# Altium schematic symbol library connectors_schematic.SchLib: 76 symbols (part 2 of 2)
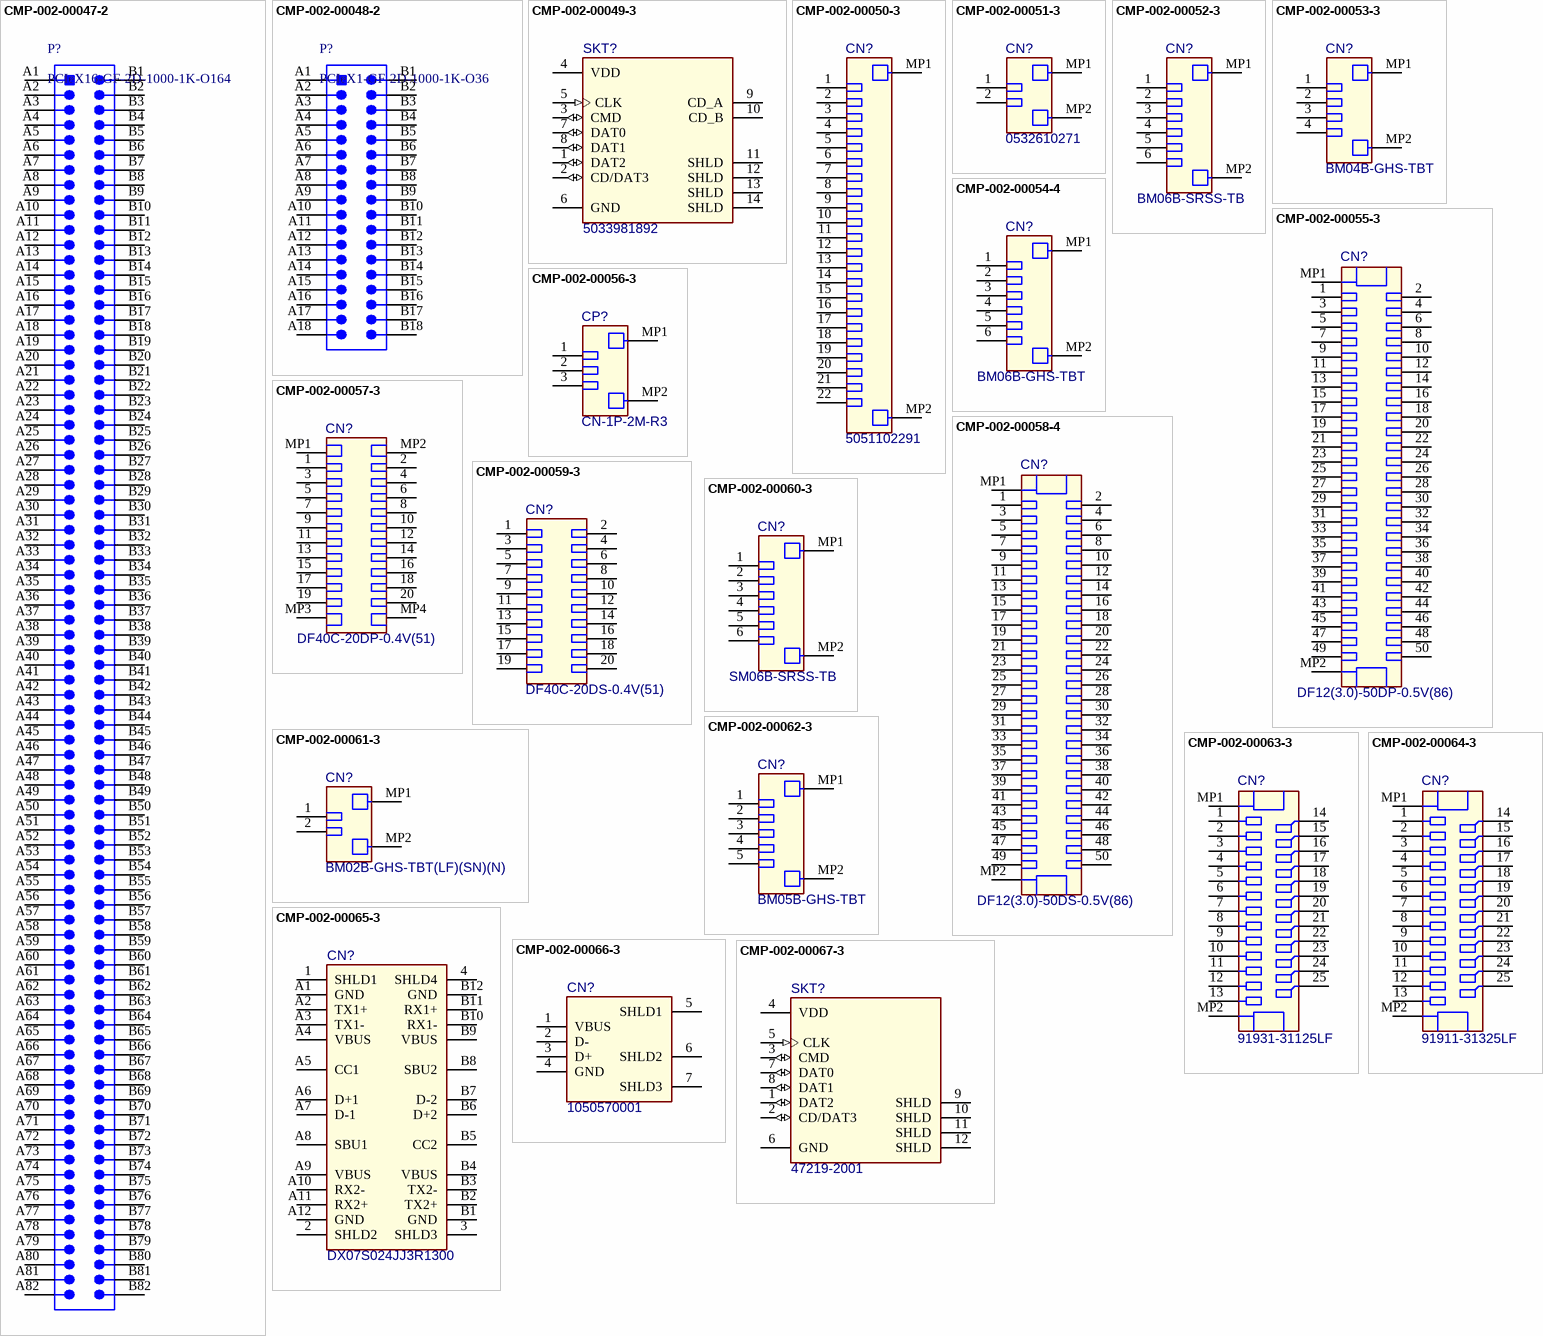
[diagram p5: symbols CMP-002-00047-2 to CMP-002-00067-3]

## CMP-002-00062-3
designator CN?, comment BM05B-GHS-TBT
GH Disconnectable Crimp Style Connector, Pitch 1.25 mm, 1 x 5 Position, Height 4.05 mm, -25 to 85 degC, RoHS, Tape and Reel; Mounting Technology: SurfaceMount; Pins: 7; Case/Package: GH Disconnectable Crimp Style Connector, Pitch 1.25 mm, 1 x 5 Position, Height 4.05 mm
footprint JST-BM05B-GHS-TBT_V (Connector, 5-Leads, Body 9.5x4.25mm, Pitch 1.25mm)
footprint JST-BM05B-GHS-TBT_V (Connector, 5-Leads, Body 9.5x4.25mm, Pitch 1.25mm)
pins: 1, 2, 3, 4, 5, MP1, MP2

## CMP-002-00063-3
designator CN?, comment 91931-31125LF
Receptacle, Pitch 1 mm, 25 Position, Height 4.15 mm, -55 to 130 degC; Pins: 27
footprint AMPH-91911-31325_V (SMD, 25-Leads, Body 5.59x17.3mm, Pitch 1mm)
footprint AMPH-91931-31125_V (SMD, 25-Leads, Body 5.59x17.3mm, Pitch 1mm)
pins: 1, 2, 3, 4, 5, 6, 7, 8, 9, 10, 11, 12, 13, 14, 15, 16, 17, 18, 19, 20, 21, 22, 23, 24, 25, MP1, MP2

## CMP-002-00064-3
designator CN?, comment 91911-31325LF
Header, Pitch 1 mm, 25 Position, Height 5 mm, -55 to 130 degC; Pins: 27
footprint AMPH-91911-31325_V (SMD, 25-Leads, Body 5.59x17.3mm, Pitch 1mm)
footprint AMPH-91911-31325_V (SMD, 25-Leads, Body 5.59x17.3mm, Pitch 1mm)
pins: 1, 2, 3, 4, 5, 6, 7, 8, 9, 10, 11, 12, 13, 14, 15, 16, 17, 18, 19, 20, 21, 22, 23, 24, 25, MP1, MP2

## CMP-002-00065-3
designator CN?, comment DX07S024JJ3R1300
USB-C Connector, 20 V, 1.25 A, -30 to 80 degC, RoHS, Tape and Reel; Gender: Receptacle; Pins: 28; Connector Type: USB-C
footprint JAE-DX07S024JJ3_V (THD, 24-Leads, Body 8.17x8.94mm, Pitch 0.5mm)
footprint JAE-DX07S024JJ3_V (THD, 24-Leads, Body 8.17x8.94mm, Pitch 0.5mm)
pins: 1 SHLD1, 2 SHLD2, 3 SHLD3, 4 SHLD4, A1 GND, A2 TX1+, A3 TX1-, A4 VBUS, A5 CC1, A6 D+1, A7 D-1, A8 SBU1, A9 VBUS, A10 RX2-, A11 RX2+, A12 GND, B1 GND, B2 TX2+, B3 TX2-, B4 VBUS, B5 CC2, B6 D+2, B7 D-2, B8 SBU2, B9 VBUS, B10 RX1-, B11 RX1+, B12 GND

## CMP-002-00066-3
designator CN?, comment 1050570001
USB-A Connector, 30 V, 1.5 A, -40 to 85 degC, RoHS, Tape and Reel; Gender: RCP; Pins: 7; RoHS Compliant: Yes
footprint MOLX-1050570001_V (THD, 4-Leads, Body 14.63x7.25mm)
footprint MOLX-1050570001_V (THD, 4-Leads, Body 14.63x7.25mm)
pins: 1 VBUS, 2 D-, 3 D+, 4 GND, 5 SHLD1, 6 SHLD2, 7 SHLD3

## CMP-002-00067-3
designator SKT?, comment 47219-2001
MicroSD Card Connector, Hinge Type, -40 to 85 degC, 8-Pin SMD, RoHS, Tape and Reel; RoHS Compliant: Details; Pins: 12
footprint MOLX-47219-2001-8_V (CONN, 8-Leads, Body 14.5x13.6mm, Pitch 1.1mm)
footprint MOLX-47219-2001-8_V (CONN, 8-Leads, Body 14.5x13.6mm, Pitch 1.1mm)
pins: 1 DAT2 (io), 2 CD/DAT3 (io), 3 CMD (io), 4 VDD (power), 5 CLK (in), 6 GND, 7 DAT0 (io), 8 DAT1 (io), 9 SHLD, 10 SHLD, 11 SHLD, 12 SHLD

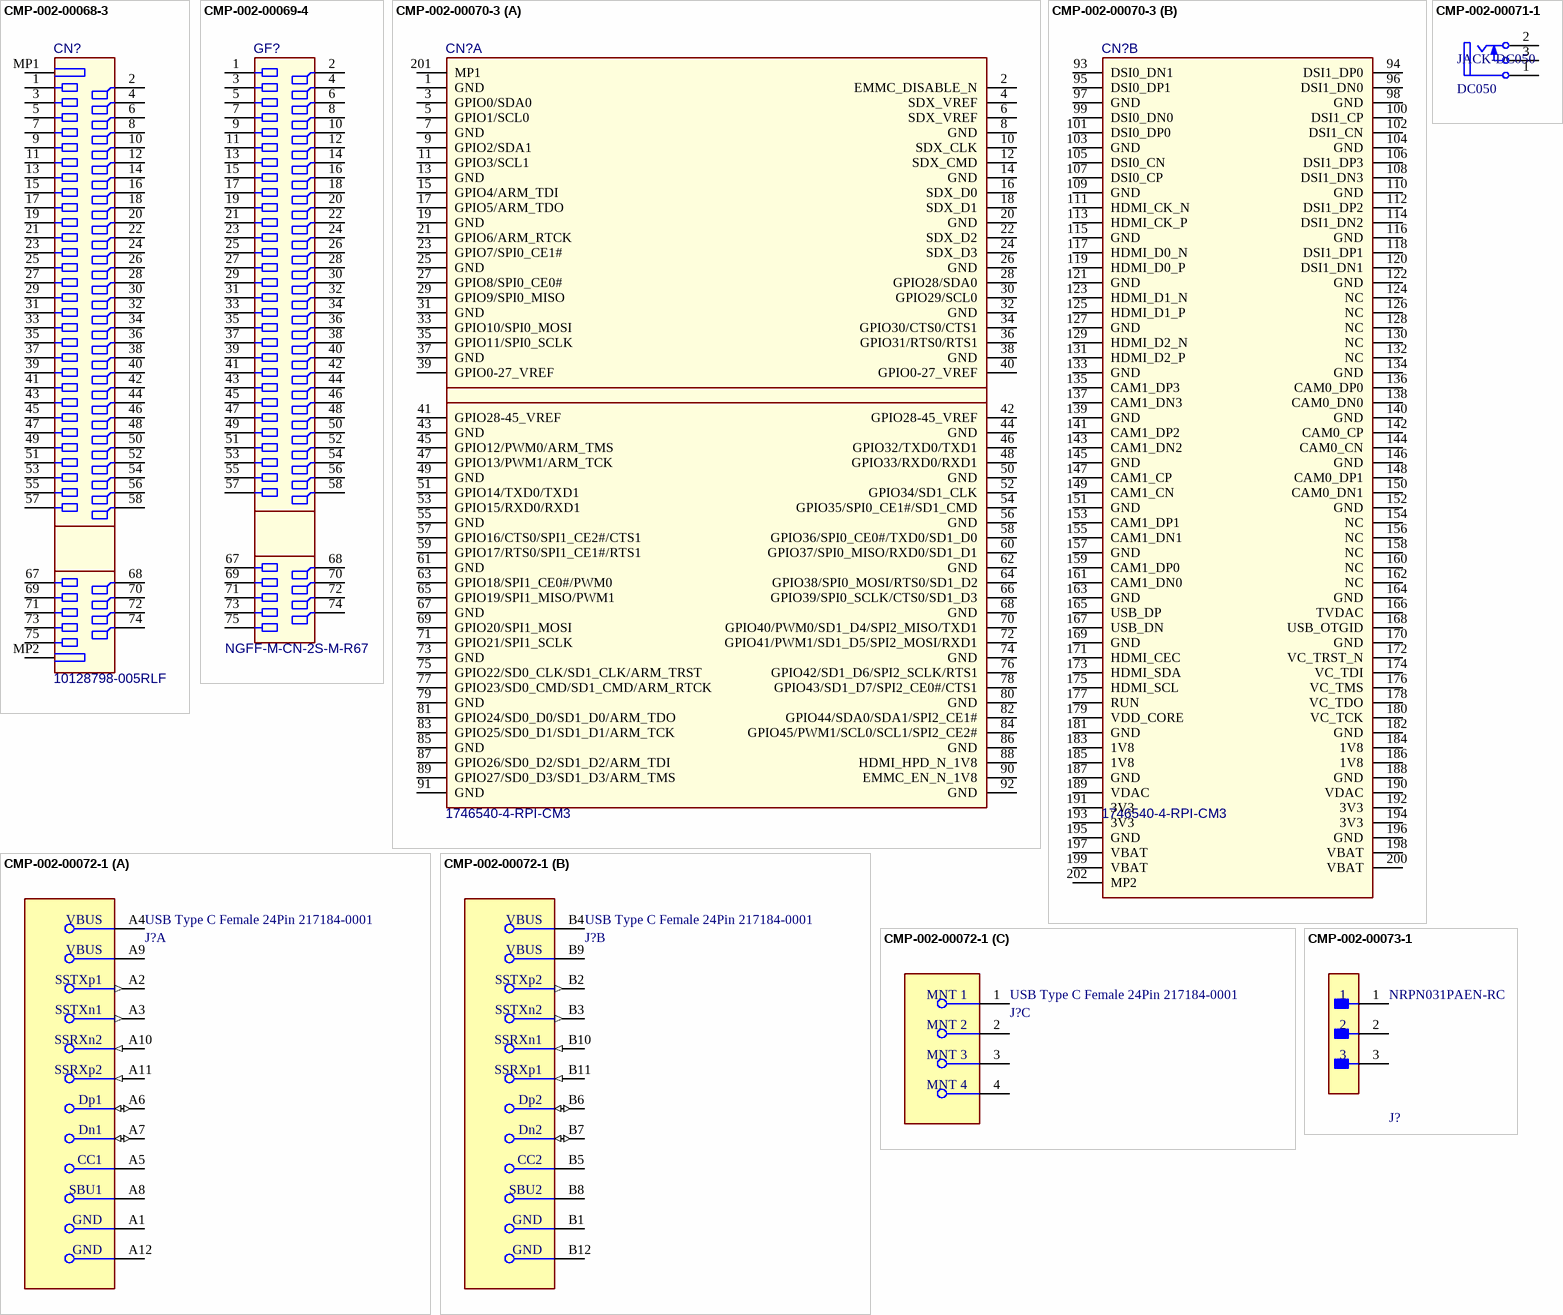
[diagram p3: symbols CMP-002-00068-3 to CMP-002-00073-1]

## CMP-002-00068-3
designator CN?, comment 10128798-005RLF
Card Edge Connector, Pitch 0.5 mm, 67 Position, Height 5.8 mm; Pins: 69
footprint AMPH-10128798-005RLF_V (SMD, 67-Leads, Body 21.9x7.2mm, Pitch 0.5mm)
footprint AMPH-10128798-005RLF_V (SMD, 67-Leads, Body 21.9x7.2mm, Pitch 0.5mm)
pins: 1, 2, 3, 4, 5, 6, 7, 8, 9, 10, 11, 12, 13, 14, 15, 16, 17, 18, 19, 20, 21, 22, 23, 24, 25, 26, 27, 28, 29, 30, 31, 32, 33, 34, 35, 36, 37, 38, 39, 40, 41, 42, 43, 44, 45, 46, 47, 48, 49, 50, 51, 52, 53, 54, 55, 56, 57, 58, 67, 68, 69, 70, 71, 72, 73, 74, 75, MP1, MP2

## CMP-002-00069-4
designator GF?, comment NGFF-M-CN-2S-M-R67  (no BOM)
Golden finger, NGFF key M, Dual, Staggered, Pitch 0.5mm, 67-Position; Pins: 67
footprint NGFF-M-GF-2D-500-1K-S67 (Golden finger, NGFF key M, Dual, Staggered, Pitch 0.5mm, 47-Position)
footprint NGFF-M-GF-2D-500-1K-S67 (Golden finger, NGFF key M, Dual, Staggered, Pitch 0.5mm, 47-Position)
pins: 1, 2, 3, 4, 5, 6, 7, 8, 9, 10, 11, 12, 13, 14, 15, 16, 17, 18, 19, 20, 21, 22, 23, 24, 25, 26, 27, 28, 29, 30, 31, 32, 33, 34, 35, 36, 37, 38, 39, 40, 41, 42, 43, 44, 45, 46, 47, 48, 49, 50, 51, 52, 53, 54, 55, 56, 57, 58, 67, 68, 69, 70, 71, 72, 73, 74, 75

## CMP-002-00070-3
designator CN?, comment 1746540-4-RPI-CM3
Raspberry Pi Compute Module 3 socket; Pins: 202
footprint TECO-1746540-4_V (SMD, 200-Leads, Body 71.5x26.55mm, Pitch 0.6mm)
footprint TECO-1746540-4_V (SMD, 200-Leads, Body 71.5x26.55mm, Pitch 0.6mm)
part A pins: 1 GND, 2 EMMC_DISABLE_N, 3 GPIO0/SDA0, 4 SDX_VREF, 5 GPIO1/SCL0, 6 SDX_VREF, 7 GND, 8 GND, 9 GPIO2/SDA1, 10 SDX_CLK, 11 GPIO3/SCL1, 12 SDX_CMD, 13 GND, 14 GND, 15 GPIO4/ARM_TDI, 16 SDX_D0, 17 GPIO5/ARM_TDO, 18 SDX_D1, 19 GND, 20 GND, 21 GPIO6/ARM_RTCK, 22 SDX_D2, 23 GPIO7/SPI0_CE1#, 24 SDX_D3, 25 GND, 26 GND, 27 GPIO8/SPI0_CE0#, 28 GPIO28/SDA0, 29 GPIO9/SPI0_MISO, 30 GPIO29/SCL0, 31 GND, 32 GND, 33 GPIO10/SPI0_MOSI, 34 GPIO30/CTS0/CTS1, 35 GPIO11/SPI0_SCLK, 36 GPIO31/RTS0/RTS1, 37 GND, 38 GND, 39 GPIO0-27_VREF, 40 GPIO0-27_VREF, 41 GPIO28-45_VREF, 42 GPIO28-45_VREF, 43 GND, 44 GND, 45 GPIO12/PWM0/ARM_TMS, 46 GPIO32/TXD0/TXD1, 47 GPIO13/PWM1/ARM_TCK, 48 GPIO33/RXD0/RXD1, 49 GND, 50 GND, 51 GPIO14/TXD0/TXD1, 52 GPIO34/SD1_CLK, 53 GPIO15/RXD0/RXD1, 54 GPIO35/SPI0_CE1#/SD1_CMD, 55 GND, 56 GND, 57 GPIO16/CTS0/SPI1_CE2#/CTS1, 58 GPIO36/SPI0_CE0#/TXD0/SD1_D0, 59 GPIO17/RTS0/SPI1_CE1#/RTS1, 60 GPIO37/SPI0_MISO/RXD0/SD1_D1, 61 GND, 62 GND, 63 GPIO18/SPI1_CE0#/PWM0, 64 GPIO38/SPI0_MOSI/RTS0/SD1_D2, 65 GPIO19/SPI1_MISO/PWM1, 66 GPIO39/SPI0_SCLK/CTS0/SD1_D3, 67 GND, 68 GND, 69 GPIO20/SPI1_MOSI, 70 GPIO40/PWM0/SD1_D4/SPI2_MISO/TXD1, 71 GPIO21/SPI1_SCLK, 72 GPIO41/PWM1/SD1_D5/SPI2_MOSI/RXD1, 73 GND, 74 GND, 75 GPIO22/SD0_CLK/SD1_CLK/ARM_TRST, 76 GPIO42/SD1_D6/SPI2_SCLK/RTS1, 77 GPIO23/SD0_CMD/SD1_CMD/ARM_RTCK, 78 GPIO43/SD1_D7/SPI2_CE0#/CTS1, 79 GND, 80 GND, 81 GPIO24/SD0_D0/SD1_D0/ARM_TDO, 82 GPIO44/SDA0/SDA1/SPI2_CE1#, 83 GPIO25/SD0_D1/SD1_D1/ARM_TCK, 84 GPIO45/PWM1/SCL0/SCL1/SPI2_CE2#, 85 GND, 86 GND, 87 GPIO26/SD0_D2/SD1_D2/ARM_TDI, 88 HDMI_HPD_N_1V8, 89 GPIO27/SD0_D3/SD1_D3/ARM_TMS, 90 EMMC_EN_N_1V8, 91 GND, 92 GND, 201 MP1
part B pins: 93 DSI0_DN1, 94 DSI1_DP0, 95 DSI0_DP1, 96 DSI1_DN0, 97 GND, 98 GND, 99 DSI0_DN0, 100 DSI1_CP, 101 DSI0_DP0, 102 DSI1_CN, 103 GND, 104 GND, 105 DSI0_CN, 106 DSI1_DP3, 107 DSI0_CP, 108 DSI1_DN3, 109 GND, 110 GND, 111 HDMI_CK_N, 112 DSI1_DP2, 113 HDMI_CK_P, 114 DSI1_DN2, 115 GND, 116 GND, 117 HDMI_D0_N, 118 DSI1_DP1, 119 HDMI_D0_P, 120 DSI1_DN1, 121 GND, 122 GND, 123 HDMI_D1_N, 124 NC, 125 HDMI_D1_P, 126 NC, 127 GND, 128 NC, 129 HDMI_D2_N, 130 NC, 131 HDMI_D2_P, 132 NC, 133 GND, 134 GND, 135 CAM1_DP3, 136 CAM0_DP0, 137 CAM1_DN3, 138 CAM0_DN0, 139 GND, 140 GND, 141 CAM1_DP2, 142 CAM0_CP, 143 CAM1_DN2, 144 CAM0_CN, 145 GND, 146 GND, 147 CAM1_CP, 148 CAM0_DP1, 149 CAM1_CN, 150 CAM0_DN1, 151 GND, 152 GND, 153 CAM1_DP1, 154 NC, 155 CAM1_DN1, 156 NC, 157 GND, 158 NC, 159 CAM1_DP0, 160 NC, 161 CAM1_DN0, 162 NC, 163 GND, 164 GND, 165 USB_DP, 166 TVDAC, 167 USB_DN, 168 USB_OTGID, 169 GND, 170 GND, 171 HDMI_CEC, 172 VC_TRST_N, 173 HDMI_SDA, 174 VC_TDI, 175 HDMI_SCL, 176 VC_TMS, 177 RUN, 178 VC_TDO, 179 VDD_CORE, 180 VC_TCK, 181 GND, 182 GND, 183 1V8 (power), 184 1V8, 185 1V8, 186 1V8, 187 GND, 188 GND, 189 VDAC, 190 VDAC, 191 3V3, 192 3V3, 193 3V3, 194 3V3, 195 GND, 196 GND, 197 VBAT, 198 VBAT, 199 VBAT, 200 VBAT, 202 MP2

## CMP-002-00071-1
designator JACK-DC050, comment DC050
DinxDout 2.1mm-55mm Jack Power DC Receptacle; Gender: Female; Voltage Rating: 16V; Max Current Rating: 2.5A; Connector Type: DCJack; Mounting Technology: SMT; Case/Package: DC050; RoHS Compliant: Yes; Pins: 3
footprint DC050-Footprint-1
pins: 1 SLEEVE, 2 TIP, 3 SHUNT

## CMP-002-00072-1
designator J?, comment USB Type C Female 24Pin 217184-0001
Connector USB Type C Female 24Positions 0.5mm Right Angle SMT Embossed T/R; Voltage Rating: 30V; Gender: Receptacle (Female); Max Current Rating: 5A; Connector Type: Type C Connectors; Pins: 24 Contact; Supplier Locally Name: Thegioiic; Supplier Locally URL: https://www.thegioiic.com/cong-usb-cai-3-1-type-c-24-chan-thang-dan-smd; Mounting Technology: SMD/SMT; Min Operating Temperature: -40°C; Case/Package: MouseReel; Standard: USB 3.2; Max Operating Temperature: 85°C
footprint FP-217184-0001-MFG
part A pins: A1 GND (power), A2 SSTXp1 (out), A3 SSTXn1 (out), A4 VBUS (power), A5 CC1, A6 Dp1 (io), A7 Dn1 (io), A8 SBU1, A9 VBUS (power), A10 SSRXn2 (in), A11 SSRXp2 (in), A12 GND (power)
part B pins: B1 GND (power), B2 SSTXp2 (out), B3 SSTXn2 (out), B4 VBUS (power), B5 CC2, B6 Dp2 (io), B7 Dn2 (io), B8 SBU2, B9 VBUS (power), B10 SSRXn1 (in), B11 SSRXp1 (in), B12 GND (power)
part C pins: 1 MNT 1, 2 MNT 2, 3 MNT 3, 4 MNT 4

## CMP-002-00073-1
designator J?, comment NRPN031PAEN-RC
Male, 3 C, Straight, .079"CC; 3.60mm Head/2.80mm Tail, No Mt; Nylon 6-T, Brass, 105 C; Connector Type: Header; Voltage Rating: 150V; Max Operating Temperature: 105°C; Min Operating Temperature: -40°C; RoHS Compliant: Yes; Mounting Technology: Through Hole
footprint FP-NRPN031PAEN-RC-MFG
pins: 1, 2, 3

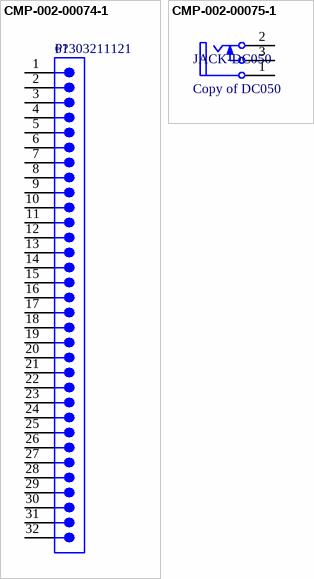
[diagram p4: symbols CMP-002-00074-1 to CMP-002-00075-1]

## CMP-002-00074-1
designator P?, comment 61303211121
THT Vertical Pin Header WR-PHD, Pitch 2.54 mm, Single Row, 32 pins; Gender: Male; Voltage Rating: 250V; Min Operating Temperature: -40°C; Mounting Technology: Through Hole; Max Operating Temperature: 105°C; Connector Type: Header; RoHS Compliant: Yes
footprint 61303211121 (Pin Header, pitch 2.54 mm, THT, Vertical, single row, 32p)
pins: 1, 2, 3, 4, 5, 6, 7, 8, 9, 10, 11, 12, 13, 14, 15, 16, 17, 18, 19, 20, 21, 22, 23, 24, 25, 26, 27, 28, 29, 30, 31, 32

## CMP-002-00075-1
designator JACK-DC050, comment Copy of DC050
DinxDout 2.1mm-55mm Jack Power DC Receptacle; Connector Type: DCJack; Voltage Rating: 16V; Gender: Female; Max Current Rating: 2.5A; RoHS Compliant: Yes; Pins: 3; Mounting Technology: SMT; Case/Package: DC050
footprint DC050-Footprint-1
pins: 1 SLEEVE, 2 TIP, 3 SHUNT